# Altium integrated library Rosenberger SMB.IntLib: 9 symbols
Pins are listed as number, name and electrical type; pins without a type are passive.

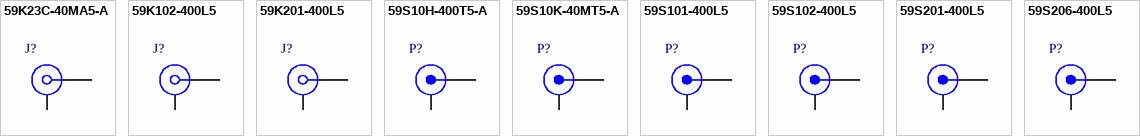
[diagram p0: symbols 59K23C-40MA5-A to 59S206-400L5]

## 59K23C-40MA5-A
designator J?
SMB Right Angle Jack, Edge Mount Pin in Paste, Coding A, Up to 6 GHz, -40 to 105 degC; PartNumber: 59K23C-40MA5-A; Coding: A (Black); Design Note: Footprint in library is a generic example - only application specific footprint delivers High Performance; DatasheetVersion: d00; PackageVersion: d00; PackageReference: 59K23C-40MA5-A; PackageDescription: SMB Right Angle Jack, 9.1 x 27.9 x 4.45 mm; Mounting Technology: Through Hole; ComponentLink1Description: Manufacturer URL; ComponentLink1URL: http://www.rosenberger.de; ComponentLink2Description: Datasheet; ComponentLink2URL: http://rosenberger.de/ok/images/documents/db/59K23C-40MA5-Y.pdf; ComponentLink3Description: Package Specification; ComponentLink3URL: http://rosenberger.de/ok/images/documents/db/59K23C-40MA5-Y.pdf; ComponentLink4Description: Webshop / RFQ; ComponentLink4URL: http://www.rosenberger.com/en/contact/sales/
footprint ROS-59K23C-40MA5-A_V (SMB Right Angle Jack, 9.1x27.9x4.45mm, Rosenberger Recommended)
pins: 1, MH

## 59K102-400L5
designator J?
SMB Straight Jack, Up to 4 GHz, -55 to 155 degC; PartNumber: 59K102-400L5; Design Note: Footprint in library is a generic example - only application specific footprint delivers High Performance; DatasheetVersion: a00; PackageVersion: a00; PackageReference: 59K102-400L5; PackageDescription: SMB Straight Jack, 6.4 x 6.4 x 8.6 mm; Mounting Technology: Through Hole; ComponentLink1Description: Manufacturer URL; ComponentLink1URL: http://www.rosenberger.de; ComponentLink2Description: Datasheet; ComponentLink2URL: http://rosenberger.de/ok/images/documents/db/59K102-400L5.pdf; ComponentLink3Description: Package Specification; ComponentLink3URL: http://rosenberger.de/ok/images/documents/db/59K102-400L5.pdf; ComponentLink4Description: Series Overview / Design Note; ComponentLink4URL: http://rosenberger.de/ok/images/documents/spez/59.pdf; ComponentLink5Description: Webshop / RFQ; ComponentLink5URL: http://www.rosenberger.com/en/contact/sales/
footprint ROS-59K102-400L5_V (SMB Straight Jack, 6.4x6.4x8.6mm, Rosenberger Recommended)
pins: 1, MH

## 59K201-400L5
designator J?
SMB Right Angle Jack, Up to 4 GHz, -55 to 155 degC; PartNumber: 59K201-400L5; Design Note: Footprint in library is a generic example - only application specific footprint delivers High Performance; DatasheetVersion: a00; PackageVersion: a00; PackageReference: 59K201-400L5; PackageDescription: SMB Right Angle Jack, 14.3 x 6.4 x 8.55 mm; Mounting Technology: Through Hole; ComponentLink1Description: Manufacturer URL; ComponentLink1URL: http://www.rosenberger.de; ComponentLink2Description: Datasheet; ComponentLink2URL: http://rosenberger.de/ok/images/documents/db/59K201-400L5.pdf; ComponentLink3Description: Package Specification; ComponentLink3URL: http://rosenberger.de/ok/images/documents/db/59K201-400L5.pdf; ComponentLink4Description: Series Overview / Design Note; ComponentLink4URL: http://rosenberger.de/ok/images/documents/spez/59.pdf; ComponentLink5Description: Webshop / RFQ; ComponentLink5URL: http://www.rosenberger.com/en/contact/sales/
footprint ROS-59K201-400L5_V (SMB Right Angle Jack, 14.3x6.4x8.55mm, Rosenberger Recommended)
pins: 1, MH

## 59S10H-400T5-A
designator P?
SMB Straight Plug, FaKrA Coding A, Up to 6 GHz, -40 to 105 degC; PartNumber: 59S10H-400T5-A; Coding: A (Black); Design Note: Footprint in library is a generic example - only application specific footprint delivers High Performance; DatasheetVersion: a00; PackageVersion: a00; PackageReference: 59S10H-400T5-A; PackageDescription: SMB Straight Plug, 10.5 x 8.5 x 12.45 mm; Mounting Technology: Through Hole; ComponentLink1Description: Manufacturer URL; ComponentLink1URL: http://www.rosenberger.de; ComponentLink2Description: Datasheet; ComponentLink2URL: http://rosenberger.de/ok/images/documents/db/59S10H-400T5-Y.pdf; ComponentLink3Description: Package Specification; ComponentLink3URL: http://rosenberger.de/ok/images/documents/db/59S10H-400T5-Y.pdf; ComponentLink4Description: Webshop / RFQ; ComponentLink4URL: http://www.rosenberger.com/en/contact/sales/
footprint ROS-59S10H-400T5-A_V (SMB Straight Plug, 10.5x8.5x12.45mm, Rosenberger Recommended)
pins: 1, MH

## 59S10K-40MT5-A
designator P?
SMB Straight Plug, Pin in Paste, FaKrA Coding A, Up to 6 GHz, -40 to 105 degC; PartNumber: 59S10K-40MT5-A; Design Note: Footprint in library is a generic example - only application specific footprint delivers High Performance; DatasheetVersion: a00; PackageVersion: a00; PackageReference: 59S10K-40MT5-A; PackageDescription: SMB Straight Plug, Pin in Paste, 9.831 x 9.831 x 10.8 mm; Mounting Technology: Pin-in-Paste; ComponentLink1Description: Manufacturer URL; ComponentLink1URL: http://www.rosenberger.de; ComponentLink2Description: Datasheet; ComponentLink2URL: http://rosenberger.de/ok/images/documents/db/59S10K-40MT5-Y.pdf; ComponentLink3Description: Package Specification; ComponentLink3URL: http://rosenberger.de/ok/images/documents/db/59S10K-40MT5-Y.pdf; ComponentLink4Description: Webshop / RFQ; ComponentLink4URL: http://www.rosenberger.com/en/contact/sales/
footprint ROS-59S10K-40MT5-A_V (SMB Straight Plug , Pin in Paste, 9.831x9.831x10.8mm, Rosenberger Recommended)
pins: 1, MH

## 59S101-400L5
designator P?
SMB Straight Plug, Up to 4 GHz, -55 to 155 degC; PartNumber: 59S101-400L5; Design Note: Footprint in library is a generic example - only application specific footprint delivers High Performance; DatasheetVersion: c00; PackageVersion: c00; PackageReference: 59S101-400L5; PackageDescription: SMB Straight Plug, 6 x 6 x 7.5 mm; Mounting Technology: Through Hole; ComponentLink1Description: Manufacturer URL; ComponentLink1URL: http://www.rosenberger.de; ComponentLink2Description: Datasheet; ComponentLink2URL: http://rosenberger.de/ok/images/documents/db/59S101-400L5.pdf; ComponentLink3Description: Package Specification; ComponentLink3URL: http://rosenberger.de/ok/images/documents/db/59S101-400L5.pdf; ComponentLink4Description: Series Overview / Design Note; ComponentLink4URL: http://rosenberger.de/ok/images/documents/spez/59.pdf; ComponentLink5Description: Webshop / RFQ; ComponentLink5URL: http://www.rosenberger.com/en/contact/sales/
footprint ROS-59S101-400L5_V (SMB Straight Plug, 6x6x7.5mm, Rosenberger Recommended)
pins: 1, MH

## 59S102-400L5
designator P?
SMB Straight Plug, Up to 4 GHz, -55 to 155 degC; PartNumber: 59S102-400L5; Design Note: Footprint in library is a generic example - only application specific footprint delivers High Performance; DatasheetVersion: a00; PackageVersion: a00; PackageReference: 59S102-400L5; PackageDescription: SMB Straight Plug, 6 x 6 x 13 mm; Mounting Technology: Through Hole; ComponentLink1Description: Manufacturer URL; ComponentLink1URL: http://www.rosenberger.de; ComponentLink2Description: Datasheet; ComponentLink2URL: http://rosenberger.de/ok/images/documents/db/59S102-400L5.pdf; ComponentLink3Description: Package Specification; ComponentLink3URL: http://rosenberger.de/ok/images/documents/db/59S102-400L5.pdf; ComponentLink4Description: Series Overview / Design Note; ComponentLink4URL: http://rosenberger.de/ok/images/documents/spez/59.pdf; ComponentLink5Description: Webshop / RFQ; ComponentLink5URL: http://www.rosenberger.com/en/contact/sales/
footprint ROS-59S102-400L5_V (SMB Straight Plug, 6x6x13mm, Rosenberger Recommended)
pins: 1, MH

## 59S201-400L5
designator P?
SMB Right Angle Plug, Up to 4 GHz, -55 to 155 degC; PartNumber: 59S201-400L5; Design Note: Footprint in library is a generic example - only application specific footprint delivers High Performance; DatasheetVersion: b00; PackageVersion: b00; PackageReference: 59S201-400L5; PackageDescription: SMB Right Angle Plug, 14.4 x 6 x 8.3 mm; Mounting Technology: Through Hole; ComponentLink1Description: Manufacturer URL; ComponentLink1URL: http://www.rosenberger.de; ComponentLink2Description: Datasheet; ComponentLink2URL: http://rosenberger.de/ok/images/documents/db/59S201-400L5.pdf; ComponentLink3Description: Package Specification; ComponentLink3URL: http://rosenberger.de/ok/images/documents/db/59S201-400L5.pdf; ComponentLink4Description: Series Overview / Design Note; ComponentLink4URL: http://rosenberger.de/ok/images/documents/spez/59.pdf; ComponentLink5Description: Webshop / RFQ; ComponentLink5URL: http://www.rosenberger.com/en/contact/sales/
footprint ROS-59S201-400L5_V (SMB Right Angle Plug, 14.4x6x8.3mm, Rosenberger Recommended)
pins: 1, MH

## 59S206-400L5
designator P?
SMB Right Angle Plug, Panel Mount, Up to 4 GHz, -55 to 155 degC; PartNumber: 59S206-400L5; Design Note: Footprint in library is a generic example - only application specific footprint delivers High Performance; DatasheetVersion: c00; PackageVersion: c00; PackageReference: 59S206-400L5; PackageDescription: SMB Right Angle Plug, 21.05 x 8 x 9.45 mm; Mounting Technology: Through Hole; ComponentLink1Description: Manufacturer URL; ComponentLink1URL: http://www.rosenberger.de; ComponentLink2Description: Datasheet; ComponentLink2URL: http://rosenberger.de/ok/images/documents/db/59S206-400L5.pdf; ComponentLink3Description: Package Specification; ComponentLink3URL: http://rosenberger.de/ok/images/documents/db/59S206-400L5.pdf; ComponentLink4Description: Series Overview / Design Note; ComponentLink4URL: http://rosenberger.de/ok/images/documents/spez/59.pdf; ComponentLink5Description: Webshop / RFQ; ComponentLink5URL: http://www.rosenberger.com/en/contact/sales/
footprint ROS-59S206-400L5_V (SMB Right Angle Plug, 21.05x8x9.45mm, Rosenberger Recommended)
pins: 1, MH